# EAGLE library part CS8190EDWFR20G (library On Semiconductor)
Precision Air-Core Tach/Speedo Driver with Return to Zero
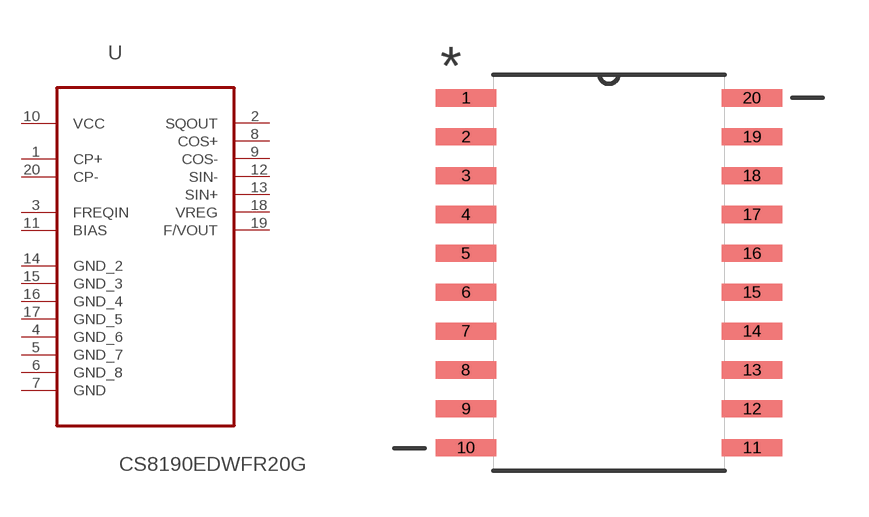
[diagram p22: symbol with the pads of SOIC127P1030X265-20N; footprint SOIC127P1030X265-20N]

Designator prefix U

## CS8190EDWFR20G (MPN: CS8190EDWFR20G; OC_FARNELL: 1568820; OC_NEWARK: 26K3580; PACKAGE: 20SOIC; SUPPLIER: ON SEMICONDUCTOR)  [SOIC127P1030X265-20N]
1  CP+  in
2  SQOUT  out
3  FREQIN  in
4  GND_6  pas
5  GND_7  pas
6  GND_8  pas
7  GND  pas
8  COS+  out
9  COS-  out
10  VCC  pwr
11  BIAS  in
12  SIN-  out
13  SIN+  out
14  GND_2  pas
15  GND_3  pas
16  GND_4  pas
17  GND_5  pas
18  VREG  out
19  F/VOUT  out
20  CP-  in

## Footprint SOIC127P1030X265-20N (pad centres in mm)
smd 1.981 x 0.559: 1 -4.674,5.715; 2 -4.674,4.445; 3 -4.674,3.175; 4 -4.674,1.905; 5 -4.674,0.635; 6 -4.674,-0.635; 7 -4.674,-1.905; 8 -4.674,-3.175; 9 -4.674,-4.445; 10 -4.674,-5.715; 11 4.674,-5.715; 12 4.674,-4.445; 13 4.674,-3.175; 14 4.674,-1.905; 15 4.674,-0.635; 16 4.674,0.635; 17 4.674,1.905; 18 4.674,3.175; 19 4.674,4.445; 20 4.674,5.715